# Altium footprint library ATMEGE64.PcbLib: 4 footprints
Each footprint in its own frame and in the unit in brackets; x right, y up, seen from the top. Pads: shape width x height; smd on the part's side, far side on the other; paste and mask are expansions set on the pad; w line width, h text height; cw(c..) or ccw(c..) is an arc to the next point about the centre after c.
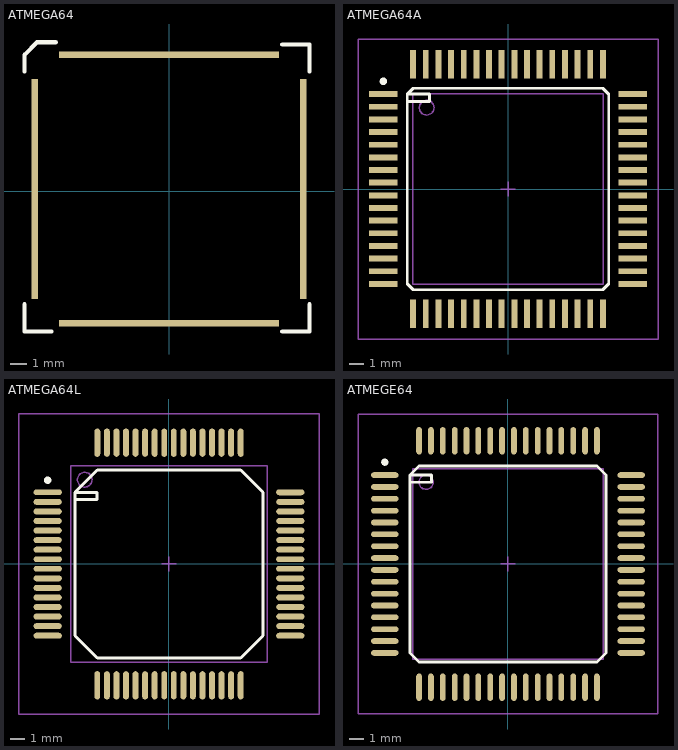
[diagram p0: the footprints below, top view; thin cyan lines are the x and y axes]

## ATMEGA64 [mm]
pads (64):
  rect 0.4x1.92 smd: 1(-8.128,5.842) 2(-8.128,5.08) 3(-8.128,4.318) 4(-8.128,3.556) 5(-8.128,2.794) 6(-8.128,2.032) 7(-8.128,1.27) 8(-8.128,0.508) 9(-8.128,-0.254) 10(-8.128,-1.016) 11(-8.128,-1.778) 12(-8.128,-2.54) 13(-8.128,-3.302) 14(-8.128,-4.064) 15(-8.128,-4.826) 16(-8.128,-5.588) 33(8.128,-5.588) 34(8.128,-4.826) 35(8.128,-4.064) 36(8.128,-3.302) 37(8.128,-2.54) 38(8.128,-1.778) 39(8.128,-1.016) 40(8.128,-0.254) 41(8.128,0.508) 42(8.128,1.27) 43(8.128,2.032) 44(8.128,2.794) 45(8.128,3.556) 46(8.128,4.318) 47(8.128,5.08) 48(8.128,5.842)
  rect 1.92x0.4 smd: 17(-5.715,-8.001) 18(-4.953,-8.001) 19(-4.191,-8.001) 20(-3.429,-8.001) 21(-2.667,-8.001) 22(-1.905,-8.001) 23(-1.143,-8.001) 24(-0.381,-8.001) 25(0.381,-8.001) 26(1.143,-8.001) 27(1.905,-8.001) 28(2.667,-8.001) 29(3.429,-8.001) 30(4.191,-8.001) 31(4.953,-8.001) 32(5.715,-8.001) 49(5.715,8.255) 50(4.953,8.255) 51(4.191,8.255) 52(3.429,8.255) 53(2.667,8.255) 54(1.905,8.255) 55(1.143,8.255) 56(0.381,8.255) 57(-0.381,8.255) 58(-1.143,8.255) 59(-1.905,8.255) 60(-2.667,8.255) 61(-3.429,8.255) 62(-4.191,8.255) 63(-4.953,8.255) 64(-5.715,8.255)
Top Overlay:
  lines w0.254: -8.763,-6.858 -8.763,-8.509 -7.112,-8.509 ; -8.763,7.239 -8.763,8.255 -8.001,9.017 -6.858,9.017 ; 6.858,-8.509 8.509,-8.509 8.509,-6.858 ; 6.858,8.89 8.509,8.89 8.509,7.239

## ATMEGA64A [mm] "TQFP, 64-Leads, Body 18.0x18.0mm (max), Pitch 0.86mm, IPC Low Density"
height 1
pads (64):
  rect 1.92x0.4 smd: 1(-8.475,6.45) 2(-8.475,5.59) 3(-8.475,4.73) 4(-8.475,3.87) 5(-8.475,3.01) 6(-8.475,2.15) 7(-8.475,1.29) 8(-8.475,0.43) 9(-8.475,-0.43) 10(-8.475,-1.29) 11(-8.475,-2.15) 12(-8.475,-3.01) 13(-8.475,-3.87) 14(-8.475,-4.73) 15(-8.475,-5.59) 16(-8.475,-6.45) 33(8.475,-6.45) 34(8.475,-5.59) 35(8.475,-4.73) 36(8.475,-3.87) 37(8.475,-3.01) 38(8.475,-2.15) 39(8.475,-1.29) 40(8.475,-0.43) 41(8.475,0.43) 42(8.475,1.29) 43(8.475,2.15) 44(8.475,3.01) 45(8.475,3.87) 46(8.475,4.73) 47(8.475,5.59) 48(8.475,6.45)
  rect 0.4x1.92 smd: 17(-6.45,-8.475) 18(-5.59,-8.475) 19(-4.73,-8.475) 20(-3.87,-8.475) 21(-3.01,-8.475) 22(-2.15,-8.475) 23(-1.29,-8.475) 24(-0.43,-8.475) 25(0.43,-8.475) 26(1.29,-8.475) 27(2.15,-8.475) 28(3.01,-8.475) 29(3.87,-8.475) 30(4.73,-8.475) 31(5.59,-8.475) 32(6.45,-8.475) 49(6.45,8.475) 50(5.59,8.475) 51(4.73,8.475) 52(3.87,8.475) 53(3.01,8.475) 54(2.15,8.475) 55(1.29,8.475) 56(0.43,8.475) 57(-0.43,8.475) 58(-1.29,8.475) 59(-2.15,8.475) 60(-3.01,8.475) 61(-3.87,8.475) 62(-4.73,8.475) 63(-5.59,8.475) 64(-6.45,8.475)
Top Overlay:
  circle w0.25: c-8.475,7.325 r0.125
  lines w0.2: -6.85,5.95 -5.35,5.95 -5.35,6.45 -6.85,6.45 ; -6.85,6.45 -6.45,6.85 6.45,6.85 6.85,6.45 6.85,-6.45 6.45,-6.85 -6.45,-6.85 -6.85,-6.45 -6.85,6.45
Mechanical 13:
  circle w0.1: c-5.53,5.53 r0.5
  lines w0.1: -6.48,-6.48 6.48,-6.48 6.48,6.48 -6.48,6.48 -6.48,-6.48
Mechanical 15:
  lines w0.1: -0.5,0 0.5,0 ; 0,-0.5 0,0.5 ; -10.2,-10.2 10.2,-10.2 10.2,10.2 -10.2,10.2 -10.2,-10.2
3D body: height 1, standoff 0.57, extent -6.48,-6.48 6.48,6.48

## ATMEGA64L [mm] "TQFP, 64-Leads, Body 18.3x18.3mm (max), Pitch 0.65mm, IPC Low Density"
height 1.24
pads (64):
  oval 1.92x0.4 smd: 1(-8.25,4.875) 2(-8.25,4.225) 3(-8.25,3.575) 4(-8.25,2.925) 5(-8.25,2.275) 6(-8.25,1.625) 7(-8.25,0.975) 8(-8.25,0.325) 9(-8.25,-0.325) 10(-8.25,-0.975) 11(-8.25,-1.625) 12(-8.25,-2.275) 13(-8.25,-2.925) 14(-8.25,-3.575) 15(-8.25,-4.225) 16(-8.25,-4.875) 33(8.25,-4.875) 34(8.25,-4.225) 35(8.25,-3.575) 36(8.25,-2.925) 37(8.25,-2.275) 38(8.25,-1.625) 39(8.25,-0.975) 40(8.25,-0.325) 41(8.25,0.325) 42(8.25,0.975) 43(8.25,1.625) 44(8.25,2.275) 45(8.25,2.925) 46(8.25,3.575) 47(8.25,4.225) 48(8.25,4.875)
  oval 0.4x1.92 smd: 17(-4.875,-8.25) 18(-4.225,-8.25) 19(-3.575,-8.25) 20(-2.925,-8.25) 21(-2.275,-8.25) 22(-1.625,-8.25) 23(-0.975,-8.25) 24(-0.325,-8.25) 25(0.325,-8.25) 26(0.975,-8.25) 27(1.625,-8.25) 28(2.275,-8.25) 29(2.925,-8.25) 30(3.575,-8.25) 31(4.225,-8.25) 32(4.875,-8.25) 49(4.875,8.25) 50(4.225,8.25) 51(3.575,8.25) 52(2.925,8.25) 53(2.275,8.25) 54(1.625,8.25) 55(0.975,8.25) 56(0.325,8.25) 57(-0.325,8.25) 58(-0.975,8.25) 59(-1.625,8.25) 60(-2.275,8.25) 61(-2.925,8.25) 62(-3.575,8.25) 63(-4.225,8.25) 64(-4.875,8.25)
Top Overlay:
  circle w0.25: c-8.25,5.7 r0.125
  lines w0.2: -6.4,4.375 -4.9,4.375 -4.9,4.875 -6.4,4.875 ; -6.4,4.875 -4.875,6.4 4.875,6.4 6.4,4.875 6.4,-4.875 4.875,-6.4 -4.875,-6.4 -6.4,-4.875 -6.4,4.875
Mechanical 13:
  circle w0.1: c-5.73,5.73 r0.5
  lines w0.1: -6.68,-6.68 6.68,-6.68 6.68,6.68 -6.68,6.68 -6.68,-6.68
Mechanical 15:
  lines w0.1: -0.5,0 0.5,0 ; 0,-0.5 0,0.5 ; -10.2,-10.2 10.2,-10.2 10.2,10.2 -10.2,10.2 -10.2,-10.2
3D body: height 1.24, standoff 0.68, extent -6.68,-6.68 6.68,6.68

## ATMEGE64 [mm] "TQFP, 64-Leads, Body 18.8x18.8mm (max), Pitch 0.83mm, IPC Low Density"
height 1.24
pads (64):
  oval 1.92x0.4 smd: 1(-8.625,6.225) 2(-8.625,5.395) 3(-8.625,4.565) 4(-8.625,3.735) 5(-8.625,2.905) 6(-8.625,2.075) 7(-8.625,1.245) 8(-8.625,0.415) 9(-8.625,-0.415) 10(-8.625,-1.245) 11(-8.625,-2.075) 12(-8.625,-2.905) 13(-8.625,-3.735) 14(-8.625,-4.565) 15(-8.625,-5.395) 16(-8.625,-6.225) 33(8.625,-6.225) 34(8.625,-5.395) 35(8.625,-4.565) 36(8.625,-3.735) 37(8.625,-2.905) 38(8.625,-2.075) 39(8.625,-1.245) 40(8.625,-0.415) 41(8.625,0.415) 42(8.625,1.245) 43(8.625,2.075) 44(8.625,2.905) 45(8.625,3.735) 46(8.625,4.565) 47(8.625,5.395) 48(8.625,6.225)
  oval 0.4x1.92 smd: 17(-6.225,-8.625) 18(-5.395,-8.625) 19(-4.565,-8.625) 20(-3.735,-8.625) 21(-2.905,-8.625) 22(-2.075,-8.625) 23(-1.245,-8.625) 24(-0.415,-8.625) 25(0.415,-8.625) 26(1.245,-8.625) 27(2.075,-8.625) 28(2.905,-8.625) 29(3.735,-8.625) 30(4.565,-8.625) 31(5.395,-8.625) 32(6.225,-8.625) 49(6.225,8.625) 50(5.395,8.625) 51(4.565,8.625) 52(3.735,8.625) 53(2.905,8.625) 54(2.075,8.625) 55(1.245,8.625) 56(0.415,8.625) 57(-0.415,8.625) 58(-1.245,8.625) 59(-2.075,8.625) 60(-2.905,8.625) 61(-3.735,8.625) 62(-4.565,8.625) 63(-5.395,8.625) 64(-6.225,8.625)
Top Overlay:
  circle w0.25: c-8.625,7.125 r0.125
  lines w0.2: -6.85,5.725 -5.35,5.725 -5.35,6.225 -6.85,6.225 ; -6.85,6.225 -6.225,6.85 6.225,6.85 6.85,6.225 6.85,-6.225 6.225,-6.85 -6.225,-6.85 -6.85,-6.225 -6.85,6.225
Mechanical 13:
  circle w0.1: c-5.73,5.73 r0.5
  lines w0.1: -6.68,-6.68 6.68,-6.68 6.68,6.68 -6.68,6.68 -6.68,-6.68
Mechanical 15:
  lines w0.1: -0.5,0 0.5,0 ; 0,-0.5 0,0.5 ; -10.5,-10.5 10.5,-10.5 10.5,10.5 -10.5,10.5 -10.5,-10.5
3D body: height 1.24, standoff 0.68, extent -6.68,-6.68 6.68,6.68